# Altium footprint library SOIC-8_W.PcbLib: 1 footprints
Each footprint in its own frame and in the unit in brackets; x right, y up, seen from the top. Pads: shape width x height; smd on the part's side, far side on the other; paste and mask are expansions set on the pad; w line width, h text height; cw(c..) or ccw(c..) is an arc to the next point about the centre after c.
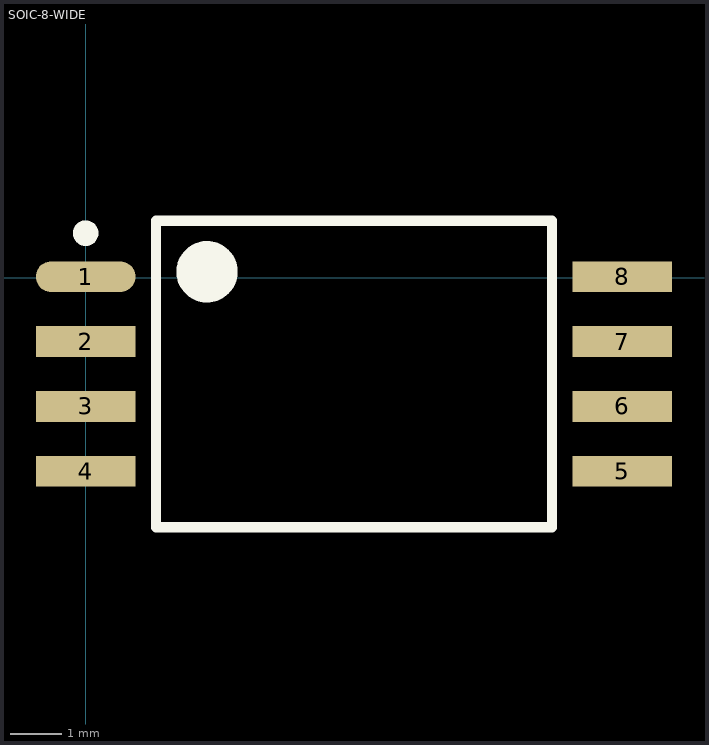
[diagram p0: the footprint, top view; thin cyan lines are the x and y axes]

## SOIC-8-WIDE [mm] "SOIC, 8-Leads, Body 5,85x7,50mm, Pitch 1,27mm, IPC Medium Density"
height 2.8
pads (8):
  oval 1.95x0.6 smd: 1(0,0.025)
  rect 1.95x0.6 smd: 2(0,-1.245) 3(0,-2.515) 4(0,-3.785) 5(10.5,-3.785) 6(10.5,-2.515) 7(10.5,-1.245) 8(10.5,0.025)
Top Overlay:
  circle w0.25: c0,0.875 r0.125
  circle w0.6: c2.375,0.12 r0.3
  lines w0.2: 1.375,-4.88 1.375,1.12 9.125,1.12 9.125,-4.88 1.375,-4.88
3D body "Wide SOIC-8.step": height 2.8, standoff 0, extent -0.5,-4.88 11,1.12